# Altium footprint library E2S_E2S_031_V1.PcbLib: 1 footprints
Each footprint in its own frame and in the unit in brackets; x right, y up, seen from the top. Pads: shape width x height; smd on the part's side, far side on the other; paste and mask are expansions set on the pad; w line width, h text height; cw(c..) or ccw(c..) is an arc to the next point about the centre after c.
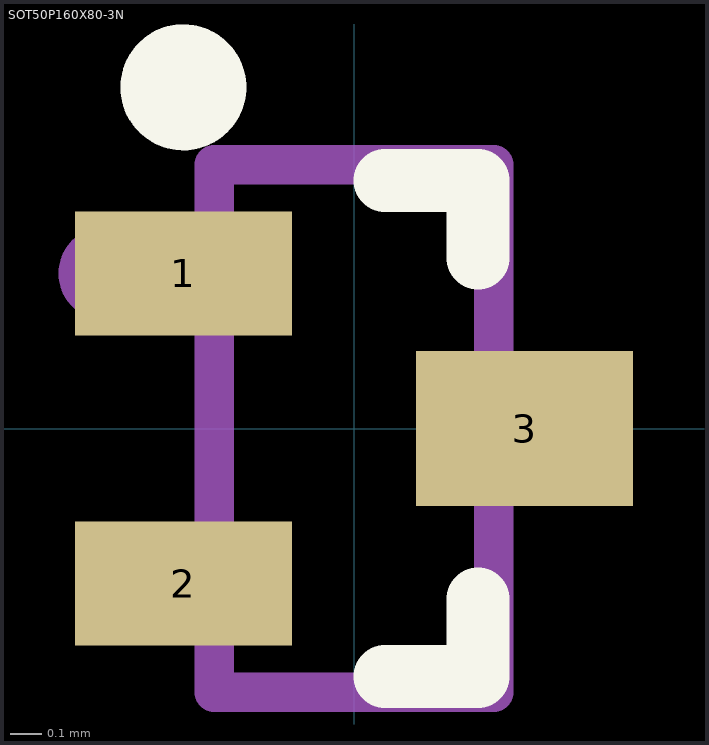
[diagram p0: the footprint, top view; thin cyan lines are the x and y axes]

## SOT50P160X80-3N [mm] "SOT23, 3-Leads, Body 1.60x1.60mm, Pitch 0.50mm, IPC Medium Density"
height 0.8
pads (3):
  rect 0.7x0.4 smd: 1(-0.55,0.5) 2(-0.55,-0.5)
  rect 0.7x0.5 smd: 3(0.55,0)
Top Overlay:
  circle w0.203: c-0.55,1.1 r0.102
  lines w0.203: 0.1,-0.8 0.4,-0.8 0.4,-0.55 ; 0.1,0.8 0.4,0.8 0.4,0.55
Mechanical 1:
  text "'.Designator'" at 0,0 h1.02
Mechanical 15:
  circle w0.152: c-0.8,0.5 r0.076
  lines w0.127: -0.45,-0.85 0.45,-0.85 0.45,0.85 -0.45,0.85 -0.45,-0.85
3D body: height 0.7, standoff -0.05, extent -0.8,-0.8 0.8,0.8